# Altium schematic symbol library BuchlaBusBoardLibrary.SchLib: 2 symbols
Pins are listed as number, name and electrical type; pins without a type are passive.

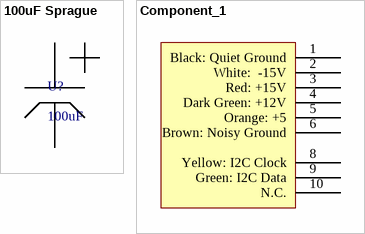
[diagram p0: symbols 100uF Sprague to Component_1]

## 100uF Sprague
designator U?, comment 100uF
107TTA050M
footprint PCBComponent_1
pins: 0 32, 1 33

## Component_1
designator C?  (value not drawn)
Buchla Power Connector
footprint BuchlaPower
pins: 1 Black: Quiet Ground, 2 White:  -15V, 3 Red: +15V, 4 Dark Green: +12V, 5 Orange: +5, 6 Brown: Noisy Ground, 8 Yellow: I2C Clock, 9 Green: I2C Data, 10 N.C.